# Altium schematic symbol library OpenMEA.SchLib: 3 symbols
Pins are listed as number, name and electrical type; pins without a type are passive.

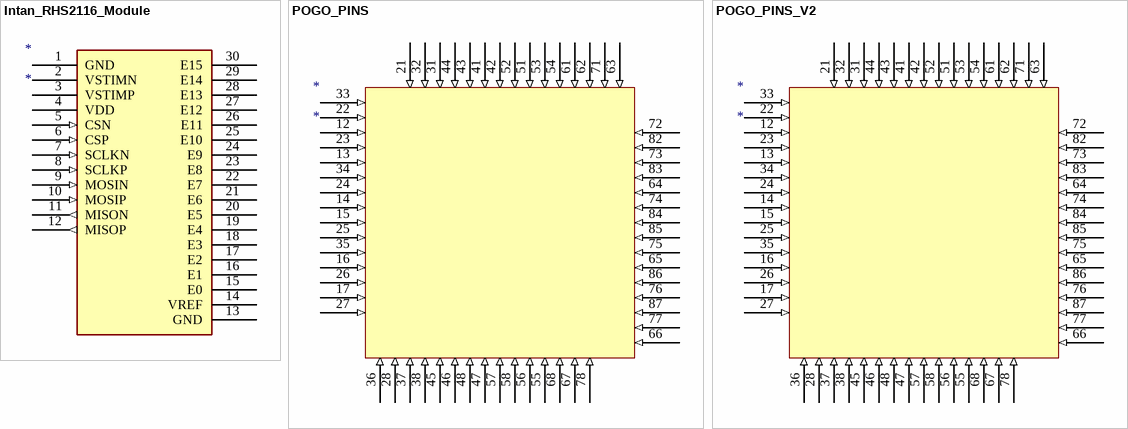
[diagram p0: symbols Intan_RHS2116_Module to POGO_PINS_V2]

## Intan_RHS2116_Module
designator *
pins: 1 GND (power), 2 VSTIMN (power), 3 VSTIMP (power), 4 VDD (power), 5 CSN (in), 6 CSP (in), 7 SCLKN (in), 8 SCLKP (in), 9 MOSIN (in), 10 MOSIP (in), 11 MISON (out), 12 MISOP (out), 13 GND (power), 14 VREF, 15 E0, 16 E1, 17 E2, 18 E3, 19 E4, 20 E5, 21 E6, 22 E7, 23 E8, 24 E9, 25 E10, 26 E11, 27 E12, 28 E13, 29 E14, 30 E15

## POGO_PINS
designator *
pins: 12 (in), 13 (in), 14 (in), 15 (in), 16 (in), 17 (in), 21 (in), 22 (in), 23 (in), 24 (in), 25 (in), 26 (in), 27 (in), 28 (in), 31 (in), 32 (in), 33 (in), 34 (in), 35 (in), 36 (in), 37 (in), 38 (in), 41 (in), 42 (in), 43 (in), 44 (in), 45 (in), 46 (in), 47 (in), 48 (in), 51 (in), 52 (in), 53 (in), 54 (in), 55 (in), 56 (in), 57 (in), 58 (in), 61 (in), 62 (in), 63 (in), 64 (in), 65 (in), 66 (in), 67 (in), 68 (in), 71 (in), 72 (in), 73 (in), 74 (in), 75 (in), 76 (in), 77 (in), 78 (in), 82 (in), 83 (in), 84 (in), 85 (in), 86 (in), 87 (in)

## POGO_PINS_V2
designator *
pins: 12 (in), 13 (in), 14 (in), 15 (in), 16 (in), 17 (in), 21 (in), 22 (in), 23 (in), 24 (in), 25 (in), 26 (in), 27 (in), 28 (in), 31 (in), 32 (in), 33 (in), 34 (in), 35 (in), 36 (in), 37 (in), 38 (in), 41 (in), 42 (in), 43 (in), 44 (in), 45 (in), 46 (in), 47 (in), 48 (in), 51 (in), 52 (in), 53 (in), 54 (in), 55 (in), 56 (in), 57 (in), 58 (in), 61 (in), 62 (in), 63 (in), 64 (in), 65 (in), 66 (in), 67 (in), 68 (in), 71 (in), 72 (in), 73 (in), 74 (in), 75 (in), 76 (in), 77 (in), 78 (in), 82 (in), 83 (in), 84 (in), 85 (in), 86 (in), 87 (in)